# EAGLE library part 233-512 (library con-wago_233)
Serie 233, Klemmenleiste für Leiterplatten 2 Lötstifte/Pol / Series 233, PCB terminal strip 2 solder pins/pole Polzahl / Pole No.: 12 Rastermaß / Pitch: 2.54 - 2.54 mm Bemessungsspannung / Rated Voltage: 160 V Nennstrom / Nominal Current: 6 A Leiterquerschnitt / Conductor Size: 0.08 - 0.5 mm2 Anschlusstechnik / Connection Technology: CAGE CLAMP® Lötstiftlänge: / Solder Pin Length: 4 mm Leitereinführung (zur Platine) / Conductor entry angle (to PCB): 30 ° Farbe / Color: orange / orange Stand: 01.01.2014. Die jeweils aktuellen Daten zu diesem Artikel finden Sie in unserem Produktkatalog, den Sie unter www.wago.com einsehen können. As of: 01/01/2014. Please find the newest data for this article in our product catalogue, which can be viewed under www.wago.com.
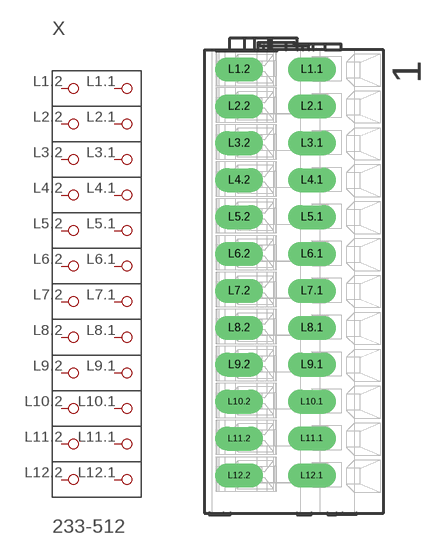
[diagram p41: symbol with the pads of P-233-512; footprint P-233-512]

Designator prefix X

## 233-512  [P-233-512]
L1.1  P1.1
L1.2  P1.2
L2.1  P2.1
L2.2  P2.2
L3.1  P3.1
L3.2  P3.2
L4.1  P4.1
L4.2  P4.2
L5.1  P5.1
L5.2  P5.2
L6.1  P6.1
L6.2  P6.2
L7.1  P7.1
L7.2  P7.2
L8.1  P8.1
L8.2  P8.2
L9.1  P9.1
L9.2  P9.2
L10.1  P10.1
L10.2  P10.2
L11.1  P11.1
L11.2  P11.2
L12.1  P12.1
L12.2  P12.2

## Footprint P-233-512 (pad centres in mm)
drill 1.1 long: L1.1 1.238,14.25; L1.2 -3.762,14.25; L2.1 1.238,11.71; L2.2 -3.762,11.71; L3.1 1.238,9.17; L3.2 -3.762,9.17; L4.1 1.238,6.63; L4.2 -3.762,6.63; L5.1 1.238,4.09; L5.2 -3.762,4.09; L6.1 1.238,1.55; L6.2 -3.762,1.55; L7.1 1.238,-0.99; L7.2 -3.762,-0.99; L8.1 1.238,-3.53; L8.2 -3.762,-3.53; L9.1 1.238,-6.07; L9.2 -3.762,-6.07; L10.1 1.238,-8.61; L10.2 -3.762,-8.61; L11.1 1.238,-11.13; L11.2 -3.762,-11.15; L12.1 1.238,-13.69; L12.2 -3.762,-13.69